# Altium schematic symbol library IRS2004PBF.SchLib: 1 symbol
Pins are listed as number, name and electrical type; pins without a type are passive.

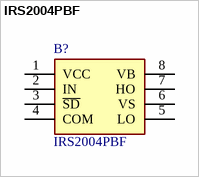
[diagram p0: symbol IRS2004PBF]

## IRS2004PBF
designator B?
Infineon IRS2004PBF Dual MOSFET Power Driver, 0.6A Half Bridge, 10  20 V 8-Pin, PDIP; Geometry.Height: 5.33mm; Farnell Part Number: *; Farnell Price/Stock: *; Manufacturer_Name: Infineon; Manufacturer_Part_Number: IRS2004PBF; Datasheet Link: https://www.infineon.com/cms/en/product/power/gate-driver-ics/?
footprint DIP762W56P254L988H533Q8N
pins: 1 VCC, 2 IN, 3 ~{SD}, 4 COM, 5 LO, 6 VS, 7 HO, 8 VB